# Altium footprint library Standard.PcbLib: 34 footprints (part 2 of 3)
Each footprint in its own frame and in the unit in brackets; x right, y up, seen from the top. Pads: shape width x height; smd on the part's side, far side on the other; paste and mask are expansions set on the pad; w line width, h text height; cw(c..) or ccw(c..) is an arc to the next point about the centre after c.
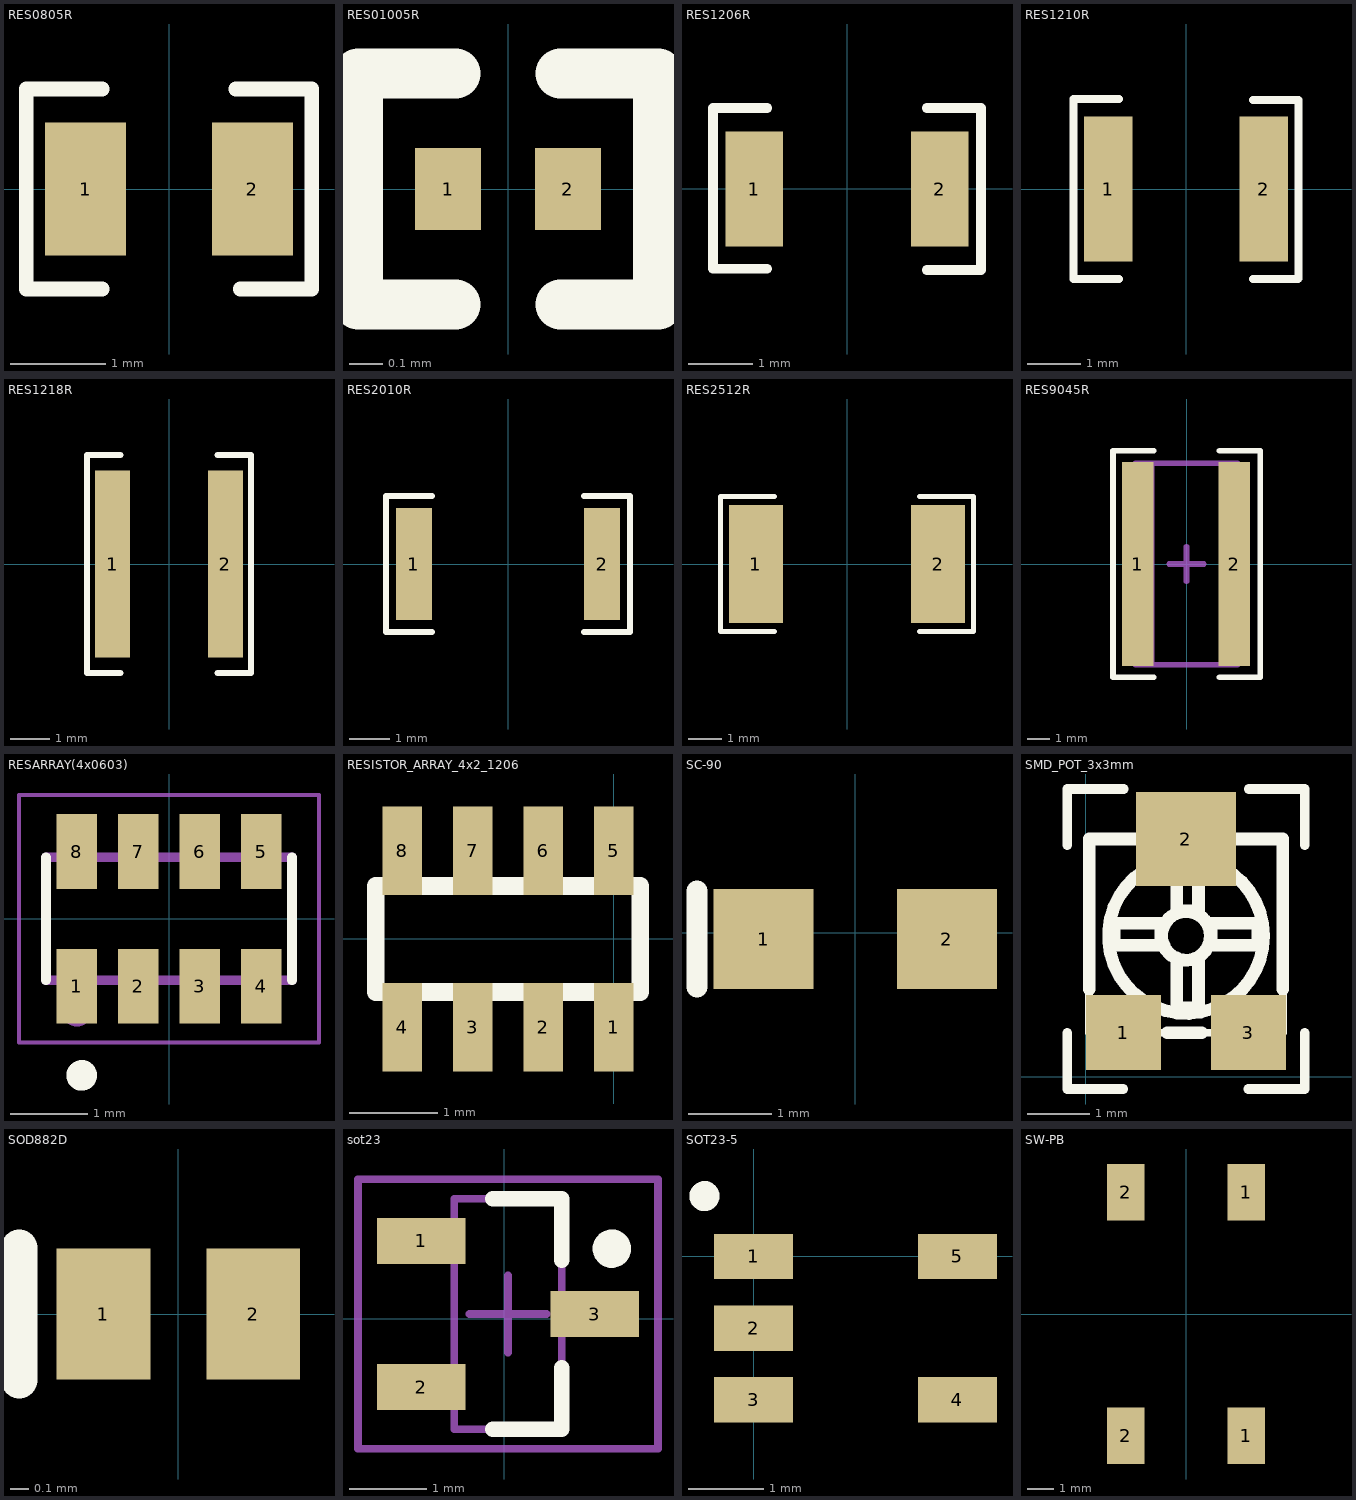
[diagram p1: the footprints below, top view; thin cyan lines are the x and y axes]

## RES0805R [mm] "resistor 0805 reflow soldering"
pads (2):
  rect 0.85x1.4 smd: 1(-0.875,0) 2(0.875,0)
Top Overlay:
  lines w0.152: -0.7,-1.05 -1.5,-1.05 -1.5,1.05 -0.7,1.05 ; 0.7,1.05 1.5,1.05 1.5,-1.05 0.75,-1.05
3D body "RES0805.stp": height 0.5, standoff 0, extent -1,-0.625 1,0.625

## RES01005R [mm] "resistor 01005 reflow soldering"
pads (2):
  rect 0.2x0.25 smd paste+0 mask+0.05: 1(-0.182,0) 2(0.182,0)
Top Overlay:
  lines w0.152: -0.16,-0.35 -0.455,-0.35 -0.455,0.35 -0.16,0.35 ; 0.16,-0.35 0.455,-0.35 0.455,0.35 0.16,0.35
3D body: height 0.13, standoff 0, extent -0.2,-0.1 -0.1,0.1
3D body: height 0.13, standoff 0, extent -0.1,-0.1 0.1,0.1
3D body: height 0.13, standoff 0, extent 0.1,-0.1 0.2,0.1

## RES1206R [mm] "resistor 1206 reflow soldering"
pads (2):
  rect 0.9x1.8 smd: 1(-1.45,0) 2(1.45,0)
Top Overlay:
  lines w0.152: -1.25,-1.25 -2.1,-1.25 -2.1,1.27 -1.25,1.27 ; 1.25,-1.27 2.1,-1.27 2.1,1.27 1.25,1.27
3D body "RES1206.stp": height 0.55, standoff 0, extent -1.5,-0.775 1.6,0.777

## RES1210R [mm] "resistor 1210 reflow soldering"
pads (2):
  rect 0.9x2.7 smd: 1(-1.45,0) 2(1.45,0)
Top Overlay:
  lines w0.152: -1.25,-1.68 -2.1,-1.68 -2.1,1.68 -1.25,1.68 ; 1.25,-1.68 2.09,-1.68 2.1,-1.67 2.1,1.66 1.25,1.66
3D body "RES1206.stp": height 0.55, standoff 0, extent -1.5,-0.775 1.6,0.777

## RES1218R [mm] "resistor 1218 reflow soldering"
pads (2):
  rect 0.9x4.8 smd: 1(-1.45,0) 2(1.45,0)
Top Overlay:
  lines w0.152: -1.25,-2.8 -2.1,-2.8 -2.1,2.8 -1.25,2.8 ; 1.25,-2.8 2.1,-2.8 2.1,2.8 1.25,2.8
3D body "RES1218.stp": height 0.55, standoff 0, extent -1.55,-2.3 1.55,2.306

## RES2010R [mm] "resistor 2010 reflow soldering"
pads (2):
  rect 0.9x2.8 smd: 1(-2.35,0) 2(2.35,0)
Top Overlay:
  lines w0.152: -1.9,-1.7 -3.05,-1.7 -3.05,1.7 -1.9,1.7 ; 1.9,-1.7 3.05,-1.7 3.05,1.7 1.9,1.7
3D body "RES2010.stp": height 0.55, standoff 0, extent -2.45,-1.2 2.45,1.2

## RES2512R [mm] "resistor 2512 reflow soldering"
pads (2):
  rect 1.6x3.5 smd: 1(-2.7,0) 2(2.7,0)
Top Overlay:
  lines w0.152: -2.15,-2 -3.75,-2 -3.75,2 -2.15,2 ; 2.15,-2 3.75,-2 3.75,2 2.15,2
3D body "res2512.stp": height 0.55, standoff 0, extent -3.15,-1.55 3.15,1.55

## RES9045R [mm] "Resistor 4W Metal Foil Current Sense FCSL series OHMITE"
height 0.5
pads (2):
  rect 1.4x9 smd: 1(-2.15,0) 2(2.1,0)
Top Overlay:
  lines w0.254: -1.45,-5 -3.25,-5 -3.25,0 -3.25,5 -1.45,5 ; 1.45,-5 3.25,-5 3.25,0 3.25,5 1.45,5
Mechanical 15:
  lines w0.254: -1.55,-4.45 -1.55,4.45 ; -0.762,0 0.762,0 ; 0,-0.762 0,0.762 ; 1.55,-4.45 1.55,4.45 ; -2.25,-4.45 -2.25,4.45 2.25,4.45 2.25,-4.45 -2.25,-4.45
3D body: height 0.25, standoff 0, extent -2.25,-4.45 -1.55,4.45
3D body: height 0.25, standoff 0, extent 1.55,-4.45 2.25,4.45
3D body: height 0.5, standoff 0.25, extent -2.25,-4.45 2.25,4.45

## RESARRAY(4x0603) [mm]
pads (8):
  rect 0.53x0.97 smd: 1(-1.2,-0.875) 2(-0.4,-0.875) 3(0.4,-0.875) 4(1.2,-0.875) 5(1.2,0.875) 6(0.4,0.875) 7(-0.4,0.875) 8(-1.2,0.875)
Top Overlay:
  circle w0.2: c-1.135,-2.035 r0.1
  lines w0.127: -1.6,-0.8 -1.6,0.8 ; 1.6,-0.8 1.6,0.8
Mechanical 4:
  circle w0.2: c-1.2,-1.2 r0.1
  circle w0.2: c-1.2,-1.2 r0.1
  lines w0.127: -1.6,-0.8 -1.6,0.8 ; -1.6,-0.8 1.6,-0.8 ; -1.6,-0.8 -1.6,0.8 ; -1.6,-0.8 1.6,-0.8 ; -1.6,0.8 1.6,0.8 ; -1.6,0.8 1.6,0.8 ; 1.6,-0.8 1.6,0.8 ; 1.6,-0.8 1.6,0.8
Mechanical 16:
  lines w0.05: -1.95,-1.61 -1.95,1.61 1.95,1.61 1.95,-1.61 -1.95,-1.61
3D body "YC164_RESPACK.stp": height 0.61, standoff 0, extent -1.6,-0.8 1.6,0.8

## RESISTOR_ARRAY_4x2_1206 [mm]
pads (8):
  rect 0.45x1 smd: 1(0,-1) 2(-0.8,-1) 3(-1.6,-1) 4(-2.4,-1) 5(0,1) 6(-0.8,1) 7(-1.6,1) 8(-2.4,1)
Top Overlay:
  lines w0.2: -2.7,-0.6 -2.7,0.6 0.3,0.6 0.3,-0.6 0,-0.6 -2.7,-0.6
3D body "User Library-Array-1206-4Way-Var2-1.STEP": height 0.5, standoff 0, extent -2.8,-0.8 0.4,0.8

## SC-90 [mm]
pads (2):
  rect 1.2x1.2 smd: 1(-1.1,-0.075) 2(1.1,-0.075)
Top Overlay:
  lines w0.254: -1.9,-0.65 -1.9,0.5
3D body "SC-90.stp": height 0.85, standoff 0, extent -1.35,-0.75 1.35,0.6

## SMD_POT_3x3mm [mm] "https://ae01.alicdn.com/kf/HTB1u8VOIVXXXXaMXFXXq6xXFXXXn/202183707/HTB1u8VOIVXXXXaMXFXXq6xXFXXXn.jpg?size=54797&height=535&width=908&hash=f9182dae1c0bb9b5ef09d7fbeb165d97"
pads (3):
  rect 1.2x1.2 smd: 1(0.6,0.7) 3(2.6,0.7)
  rect 1.6x1.5 smd: 2(1.6,3.8)
Top Overlay:
  circle w0.203: c1.6,2.25 r0.39
  circle w0.203: c1.6,2.25 r1.242
  lines w0.127: 0.05,3.8 0.05,0.7 3.15,0.7 3.15,3.8
  lines w0.152: -0.3,0.7 -0.3,-0.2 0.6,-0.2 ; -0.3,3.7 -0.3,4.6 0.6,4.6 ; 2.6,-0.2 3.5,-0.2 3.5,0.7 ; 2.6,4.6 3.5,4.6 3.5,3.7
  lines w0.203: 0.05,1.4 0.05,3.8 3.15,3.8 3.15,1.4 ; 1.2,2.15 1.2,2.45 0.45,2.45 0.45,2.1 1.25,2.1 ; 1.3,0.7 1.85,0.7 ; 1.45,1.9 1.45,1.1 1.8,1.1 1.8,1.9 ; 1.45,3.4 1.45,2.65 1.8,2.65 1.8,3.4 ; 2,2.1 2.75,2.1 2.75,2.45 2,2.45 2,2.1
3D body "Pot_smd.STEP": height 1.62, standoff 0, extent 0.05,0.3 3.15,4.1

## SOD882D [mm] "SOD882D; 2 Leads; Body 1.0 x 0.6 mm, (LxW)"
height 0.4
pads (2):
  rect 0.5x0.7 smd: 1(-0.4,0) 2(0.4,0)
Top Overlay:
  lines w0.2: -0.85,-0.35 -0.85,0.35
3D body "User Library-SOD882-1.step": height 0.51, standoff 0, extent -0.492,-0.292 0.493,0.293

## sot23 [mm]
pads (3):
  rect 1.15x0.6 smd: 1(-1.074,1.013) 2(-1.074,-0.887) 3(1.176,0.063)
Top Overlay:
  circle w0.25: c1.401,0.913 r0.125
  lines w0.2: -0.149,-1.437 0.751,-1.437 0.751,-0.637 ; -0.149,1.563 0.751,1.563 0.751,0.763
Mechanical 13:
  lines w0.1: -0.649,-1.437 0.751,-1.437 0.751,1.563 -0.649,1.563 -0.649,-1.437
Mechanical 15:
  lines w0.1: -0.449,0.063 0.551,0.063 ; 0.051,-0.437 0.051,0.563 ; -1.899,-1.687 2.001,-1.687 2.001,1.813 -1.899,1.813 -1.899,-1.687
3D body "User Library-SOT23-3.step": height 1.3, standoff 0, extent -1.4,-1.4 1.4,1.5

## SOT23-5 [mm] "5-pin OPAMP"
pads (5):
  rect 1.05x0.6 smd: 1(0,0) 2(0,-0.95) 3(0,-1.9) 4(2.7,-1.9) 5(2.7,0)
Top Overlay:
  circle w0.2: c-0.65,0.8 r0.1
3D body "User Library-R-PDSO-G5.STEP": height 1.3, standoff -0.15, extent -0.15,-2.475 2.85,0.575

## SW-PB [mm] "PushButton Switch"
pads (4):
  rect 1.4x2.1 smd: 1(2.25,-4.55) 1(2.25,4.55) 2(-2.25,-4.55) 2(-2.25,4.55)
3D body "User Library-Push Button SMD.step": height 5.14, standoff 0.03, extent -2.975,-5.05 3.025,4.95